# Altium schematic symbol library L.SchLib: 35 symbols
Pins are listed as number, name and electrical type; pins without a type are passive.

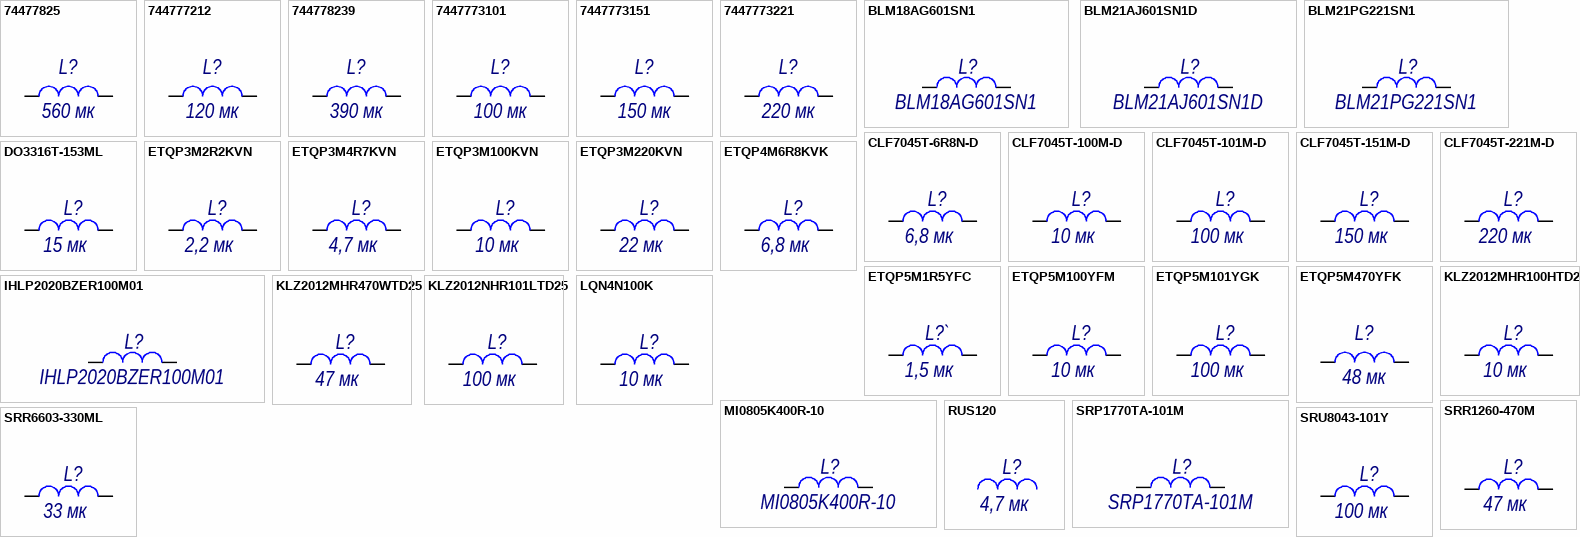
[diagram p0: symbols 74477825 to SRU8043-101Y]

## 74477825
designator L?, comment value 560 мк  (hidden comment: Индуктивность 74477825 фирма "Wurth Electronics Inc.")
560µH Shielded Wirewound Inductor 270mA 4.67Ohm; PartNumber: 74477825; GOST: Индуктивность 74477825 фирма "Wurth Electronics Inc."
footprint WE-PD SMT 7345 (SMT Shielded Power Inductor, Dim 7.3mm*7.4mm H=4.5mm)
pins: 1, 2

## 744777212
designator L?, comment value 120 мк  (hidden comment: Индуктивность 744777212 фирма "Wurth Electronics Inc.")
120µH Shielded Wirewound Inductor 670mA 400mOhm; PartNumber: 744777212; GOST: Индуктивность 744777212 фирма "Wurth Electronics Inc."
footprint WE-PD SMT 7345 (SMT Shielded Power Inductor, Dim 7.3mm*7.4mm H=4.5mm)
pins: 1, 2

## 744778239
designator L?, comment value 390 мк  (hidden comment: Индуктивность 744778239 фирма "Wurth Electronics Inc.")
390µH Shielded Wirewound Inductor 300mA 2.94Ohm; PartNumber: 744778239; GOST: Индуктивность 744778239 фирма "Wurth Electronics Inc."
footprint WE-PD SMT 7345 (SMT Shielded Power Inductor, Dim 7.3mm*7.4mm H=4.5mm)
pins: 1, 2

## 7447773101
designator L?, comment value 100 мк  (hidden comment: Индуктивность 7447773101 фирма "Wurth Electronics Inc.")
100µH Shielded Wirewound Inductor 970mA 335mOhm; PartNumber: 7447773101; GOST: Индуктивность 7447773101 фирма "Wurth Electronics Inc."
footprint WE-PD SMT 7345 (SMT Shielded Power Inductor, Dim 7.3mm*7.4mm H=4.5mm)
pins: 1, 2

## 7447773151
designator L?, comment value 150 мк  (hidden comment: Индуктивность 7447773151 фирма "Wurth Electronics Inc.")
150µH Shielded Wirewound Inductor 780mA 515mOhm; PartNumber: 7447773151; GOST: Индуктивность 7447773151 фирма "Wurth Electronics Inc."
footprint WE-PD SMT 7345 (SMT Shielded Power Inductor, Dim 7.3mm*7.4mm H=4.5mm)
pins: 1, 2

## 7447773221
designator L?, comment value 220 мк  (hidden comment: Индуктивность 7447773221 фирма "Wurth Electronics Inc.")
220µH Shielded Wirewound Inductor 630mA 770mOhm; PartNumber: 7447773221; GOST: Индуктивность 7447773221 фирма "Wurth Electronics Inc."
footprint WE-PD SMT 7345 (SMT Shielded Power Inductor, Dim 7.3mm*7.4mm H=4.5mm)
footprint WE-PD SMT 7345 add pin size (SMT Shielded Power Inductor, Dim 7.3mm*7.4mm H=4.5mm)
pins: 1, 2

## BLM18AG601SN1
designator L?, comment PartNumber: BLM18AG601SN1  (hidden comment: Дроссель BLM18AG601SN1 фирма "Murata")
600ohm±25% on 100MHz 500mA -55...+125 C; Value: *; GOST: Дроссель BLM18AG601SN1 фирма "Murata"
footprint BLM18A (Dim 1.6mm*0.8mm    max H=0.95mm)
pins: 1, 2

## BLM21AJ601SN1D
designator L?, comment PartNumber: BLM21AJ601SN1D  (hidden comment: Дроссель BLM21AJ601SN1D фирма "Murata")
600ohm±25% on 100MHz 700mA -55...+125 C; Value: *; GOST: Дроссель BLM21AJ601SN1D фирма "Murata"
footprint BLM21P (Chip Ferrite Bead, 2-Leads, Body 2x1.25mm, Height 1.05mm)
pins: 1, 2

## BLM21PG221SN1
designator L?, comment PartNumber: BLM21PG221SN1  (hidden comment: Дроссель BLM21PG221SN1 фирма "Murata")
22ohm±25% on 100MHz, 6A maks, -55...+125 C; Value: *; GOST: Дроссель BLM21PG221SN1 фирма "Murata"
footprint BLM21P (Chip Ferrite Bead, 2-Leads, Body 2x1.25mm, Height 1.05mm)
pins: 1, 2

## CLF7045T-6R8N-D
designator L?, comment value 6,8 мк  (hidden comment: Дроссель CLF7045T-6R8N-D фирма "TDK")
Drossel 6,8 мкГн, 30%, 3.3A, 27 mOhms, +150C; PartNumber: CLF7045T-6R8N-D; GOST: Дроссель CLF7045T-6R8N-D фирма "TDK"
footprint CLF7045-D (7.4*7.1mm (max) H=4.8mm (max))
footprint CLF7045-D_add pin size (7.4*7.1mm (max) H=4.8mm (max) увеличины площадки)
pins: 1, 2

## CLF7045T-100M-D
designator L?, comment value 10 мк  (hidden comment: Дроссель CLF7045T-100M-D фирма "TDK")
Drossel 10 мкГн, 20%, 2.7A, 38 mOhms, +150C; PartNumber: CLF7045T-100M-D; GOST: Дроссель CLF7045T-100M-D фирма "TDK"
footprint CLF7045-D (7.4*7.1mm (max) H=4.8mm (max))
footprint CLF7045-D_add pin size (7.4*7.1mm (max) H=4.8mm (max) увеличины площадки)
pins: 1, 2

## CLF7045T-101M-D
designator L?, comment value 100 мк  (hidden comment: Дроссель CLF7045T-101M-D фирма "TDK")
Drossel 100 мкГн, 20%, 0.9A, 330 mOhms, +150C; PartNumber: CLF7045T-101M-D; GOST: Дроссель CLF7045T-101M-D фирма "TDK"
footprint CLF7045-D (7.4*7.1mm (max) H=4.8mm (max))
footprint CLF7045-D_add pin size (7.4*7.1mm (max) H=4.8mm (max) увеличины площадки)
pins: 1, 2

## CLF7045T-151M-D
designator L?, comment value 150 мк  (hidden comment: Дроссель CLF7045T-151M-D фирма "TDK")
Drossel 150 мкГн, 20%, 0.67A, 480 mOhms, +150C; PartNumber: CLF7045T-151M-D; GOST: Дроссель CLF7045T-151M-D фирма "TDK"
footprint CLF7045-D (7.4*7.1mm (max) H=4.8mm (max))
footprint CLF7045-D_add pin size (7.4*7.1mm (max) H=4.8mm (max) увеличины площадки)
pins: 1, 2

## CLF7045T-221M-D
designator L?, comment value 220 мк  (hidden comment: Дроссель CLF7045T-221M-D фирма "TDK")
Drossel 220 мкГн, 20%, 0.62A, 660 mOhms, +150C; PartNumber: CLF7045T-221M-D; GOST: Дроссель CLF7045T-221M-D фирма "TDK"
footprint CLF7045-D (7.4*7.1mm (max) H=4.8mm (max))
footprint CLF7045-D_add pin size (7.4*7.1mm (max) H=4.8mm (max) увеличины площадки)
pins: 1, 2

## DO3316T-153ML
designator L?, comment value 15 мк  (hidden comment: Дроссель DO3316T-153ML фирма "Coilcraft")
Inductors for xDSL Filters, 15 мкГн, 3A; PartNumber: DO3316T-153ML; GOST: Дроссель DO3316T-153ML фирма "Coilcraft"
footprint DO3316T (Dim 13.2mm*9.9mm H=6.35mm)
pins: 1, 2

## ETQP3M2R2KVN
designator L?, comment value 2,2 мк  (hidden comment: Дроссель ETQP3M2R2KVN фирма "Panasonic")
Drossel 2,2 мкГн; PartNumber: ETQP3M2R2KVN; GOST: Дроссель ETQP3M2R2KVN фирма "Panasonic"
footprint PCC-M0630M-LP (no ZZ) (Dim 6.8mm*6.4mm H=3.0mm (no zap zone))
footprint PCC-M0630M-LP (Dim 6.4mm*6.0mm H=3.0mm)
pins: 1, 2

## ETQP3M4R7KVN
designator L?, comment value 4,7 мк  (hidden comment: Дроссель ETQP3M4R7KVN фирма "Panasonic")
Drossel 4,7 мкГн; PartNumber: ETQP3M4R7KVN; GOST: Дроссель ETQP3M4R7KVN фирма "Panasonic"
footprint PCC-M0630M-LP (no ZZ) (Dim 6.8mm*6.4mm H=3.0mm (no zap zone))
footprint PCC-M0630M-LP (Dim 6.4mm*6.0mm H=3.0mm)
footprint PCC-M0630M-LP add pin size (Dim 6.4mm*6.0mm H=3.0mm add pin size)
pins: 1, 2

## ETQP3M100KVN
designator L?, comment value 10 мк  (hidden comment: Дроссель ETQP3M100KVN фирма "Panasonic")
Drossel 10 мкГн; PartNumber: ETQP3M100KVN; GOST: Дроссель ETQP3M100KVN фирма "Panasonic"
footprint PCC-M0630M-LP (Dim 6.4mm*6.0mm H=3.0mm)
footprint PCC-M0630M-LP add pin size (Dim 6.4mm*6.0mm H=3.0mm add pin size)
pins: 1, 2

## ETQP3M220KVN
designator L?, comment value 22 мк  (hidden comment: Дроссель ETQP3M220KVN фирма "Panasonic")
Drossel 22 мкГн; PartNumber: ETQP3M220KVN; GOST: Дроссель ETQP3M220KVN фирма "Panasonic"
footprint PCC-M0630M-LP (no ZZ) (Dim 6.8mm*6.4mm H=3.0mm (no zap zone))
footprint PCC-M0630M-LP (Dim 6.4mm*6.0mm H=3.0mm)
pins: 1, 2

## ETQP4M6R8KVK
designator L?, comment value 6,8 мк  (hidden comment: Дроссель ETQP4M6R8KVK фирма "Panasonic")
Drossel 6,8 мкГн; PartNumber: ETQP4M6R8KVK; GOST: Дроссель ETQP4M6R8KVK фирма "Panasonic"
footprint PCC-M0840M-LP (8.5x8.0x4.0 mm)
pins: 1, 2

## ETQP5M1R5YFC
designator L?`, comment value 1,5 мк  (hidden comment: Дроссель ETQP5M1R5YFC фирма "Panasonic")
Drossel 1,45мкГн ±20% 7.9A; PartNumber: ETQP5M1R5YFC; GOST: Дроссель ETQP5M1R5YFC фирма "Panasonic"
footprint PCC-M1054M (10.7x10.0x5.4 mm)
pins: 1, 2

## ETQP5M100YFM
designator L?, comment value 10 мк  (hidden comment: Дроссель ETQP5M100YFM фирма "Panasonic")
Drossel 10 мкГн ±20% 10.6A; PartNumber: ETQP5M100YFM; GOST: Дроссель ETQP5M100YFM фирма "Panasonic"
footprint PCC-M0754M (7.5(7.9)x7.0(7.4)x5.4 mm)
pins: 1, 2

## ETQP5M101YGK
designator L?, comment value 100 мк  (hidden comment: Дроссель ETQP5M101YGK фирма "Panasonic")
Drossel 100 мкГн ±20% 1.7A; PartNumber: ETQP5M101YGK; GOST: Дроссель ETQP5M101YGK фирма "Panasonic"
footprint PCC-M0850M (8.5x8.0x5.0 mm)
pins: 1, 2

## ETQP5M470YFK
designator L?, comment value 48 мк  (hidden comment: Дроссель ETQP5M470YFK фирма "Panasonic")
Drossel 48 мкГн ±20% 2,9A; Pattern: PCC-M0854M; PartNumber: ETQP5M470YFK; GOST: Дроссель ETQP5M470YFK фирма "Panasonic"
footprint PCC-M0854M (8.5(8.9)x8.0(8.4)x5.4 mm)
footprint PCC-M0854M (no ZZ) (8.5(8.9)x8.0(8.4)x5.4 mm (no zap zone))
pins: 1, 2

## IHLP2020BZER100M01
designator L?, comment PartNumber: IHLP2020BZER100M01  (hidden comment: Дроссель IHLP2020BZER100M01 фирма "Vishay")
Drossel 10 мкГн, 4A Irms, 2.3A Isat, 20 МГц; Value: 10 мк; GOST: Дроссель IHLP2020BZER100M01 фирма "Vishay"
footprint IHLP-2020BZ-01 (Dim 5.4mm*5.4mm H=2.0mm)
pins: 1, 2

## KLZ2012MHR100HTD25
designator L?, comment value 10 мк  (hidden comment: Индуктивность KLZ2012MHR100HTD25 фирма "TDK")
Индуктивность 10 мкГн; PartNumber: KLZ2012MHR100HTD25; GOST: Индуктивность KLZ2012MHR100HTD25 фирма "TDK"
footprint KLZ2012-HR_H1.25mm (Dim 2mm*1.25mm H=1.25mm (0805))
pins: 1, 2

## KLZ2012MHR470WTD25
designator L?, comment value 47 мк  (hidden comment: Индуктивность KLZ2012MHR470WTD25 фирма "TDK")
Индуктивность 47 мкГн 2 МГц макс 170 мА 20%; PartNumber: KLZ2012MHR470WTD25; GOST: Индуктивность KLZ2012MHR470WTD25 фирма "TDK"
footprint KLZ2012-HR_H1.25mm (Dim 2mm*1.25mm H=1.25mm (0805))
pins: 1, 2

## KLZ2012NHR101LTD25
designator L?, comment value 100 мк  (hidden comment: Индуктивность KLZ2012NHR101LTD25 фирма "TDK")
Индуктивность 100 мкГн; PartNumber: KLZ2012NHR101LTD25; GOST: Индуктивность KLZ2012NHR101LTD25 фирма "TDK"
footprint KLZ2012-HR_H1.25mm (Dim 2mm*1.25mm H=1.25mm (0805))
pins: 1, 2

## LQN4N100K
designator L?, comment value 10 мк  (hidden comment: Дроссель LQN4N100K фирма "Murata")
Drossel 1812, 10 мкГн, 10%; PartNumber: LQN4N100K; GOST: Дроссель LQN4N100K фирма "Murata"
footprint LQN4N (Dim 4.5mm*3.2mm H=2.6mm индуктивность (Murata))
pins: 1, 2

## MI0805K400R-10
designator L?, comment PartNumber: MI0805K400R-10  (hidden comment: Дроссель MI0805K400R-10 фирма "Laird Performance Materials")
Ферритовыq фильтр 40ohms 100MHz 1.5A Monolithic 0805 SMD  -40...+125 C; Value: *; GOST: Дроссель MI0805K400R-10 фирма "Laird Performance Materials"
footprint MI0805 (Dim 2mm*1.25mm (0805)   max H=0.95mm SMD Ferrite Chip Beads)
pins: 1, 2

## RUS120
designator L?, comment value 4,7 мк  (hidden comment: Дроссель RUS120)
Drossel 4,7 мкГн; PartNumber: RUS120; GOST: Дроссель RUS120
footprint Trans_Circle_D16 H5 (D_Circle = 16mm H=5mm)

## SRP1770TA-101M
designator L?, comment PartNumber: SRP1770TA-101M  (hidden comment: Дроссель SRP1770TA-101M фирма "Bourns")
Drossel 100 мкГн 20%, 5.3A Irms, 6.5A Isat, 2 МГц, 150 C; Value: 100 мк; GOST: Дроссель SRP1770TA-101M фирма "Bourns"
footprint SRP1770TA (Dim 18mm max*17.2mm  max H=7.0mm max)
pins: 1, 2

## SRR1260-470M
designator L?, comment value 47 мк  (hidden comment: Дроссель SRR1260-470M фирма "Bourns")
Drossel 47 мкГн; PartNumber: SRR1260-470M; GOST: Дроссель SRR1260-470M фирма "Bourns"
footprint SRR1260 (12.8*12.8mm (max) H=6.5mm)
pins: 1, 2

## SRR6603-330ML
designator L?, comment value 33 мк  (hidden comment: Дроссель SRR6603-330ML фирма "Bourns")
Drossel 33 мкГн; PartNumber: SRR6603-330ML; GOST: Дроссель SRR6603-330ML фирма "Bourns"
footprint SRR6603 (6.6*4.4mm (max) H=3mm)
pins: 1, 2

## SRU8043-101Y
designator L?, comment value 100 мк  (hidden comment: Дроссель SRU8043-101Y фирма "Bourns")
Drossel 100 мкГн; PartNumber: SRU8043-101Y; GOST: Дроссель SRU8043-101Y фирма "Bourns"
footprint SRU8043 (8.3*8.3mm (max) H=4.5mm)
pins: 1, 2